# Altium footprint library RC0603FR-0714KL.PcbLib: 3 footprints
Each footprint in its own frame and in the unit in brackets; x right, y up, seen from the top. Pads: shape width x height; smd on the part's side, far side on the other; paste and mask are expansions set on the pad; w line width, h text height; cw(c..) or ccw(c..) is an arc to the next point about the centre after c.
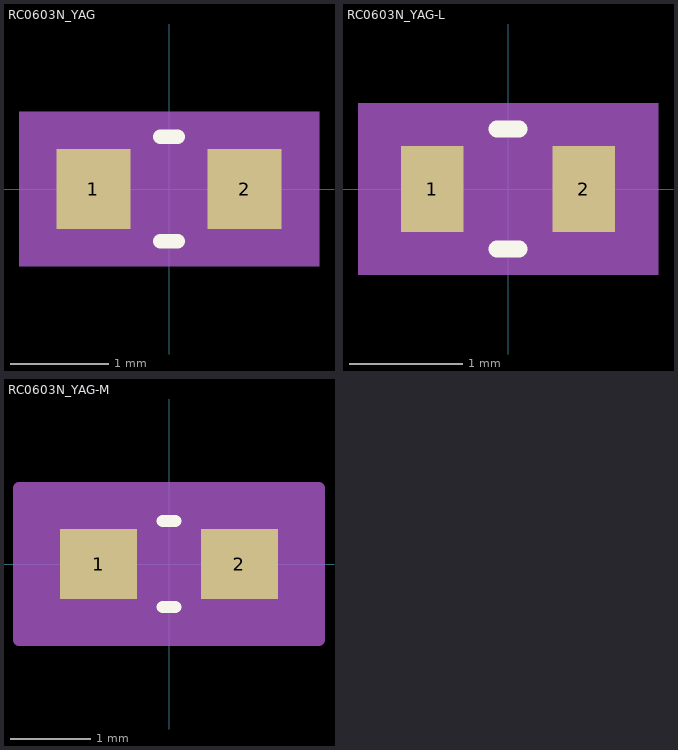
[diagram p0: the footprints below, top view; thin cyan lines are the x and y axes]

## RC0603N_YAG [mil]
pads (2):
  rect 29.78x32 smd paste+0 mask+0: 1(-30.39,0) 2(30.39,0)
Top Overlay:
  lines w6: -3.39,-21 3.39,-21 ; -3.39,21 3.39,21
Mechanical 5:
  region: 60.28,-31 -60.28,-31 -60.28,31 60.28,31
Mechanical 13:
  lines w1: -31.5,-16 -31.5,16 ; -31.5,-16 -15.5,-16 -15.5,16 -31.5,16 ; -31.5,-16 31.5,-16 ; -31.5,-16 -31.5,16 ; -31.5,16 31.5,16 ; 31.5,-16 15.5,-16 15.5,16 31.5,16 ; 31.5,-16 31.5,16 ; 31.5,-16 31.5,16
Mechanical 15:
  region: 55.28,-26 -55.28,-26 -55.28,26 55.28,26
  lines w6: -55.28,-26 -55.28,26 55.28,26 55.28,-26 -55.28,-26
3D body "RC0603N_YAG.step": height 27.99, standoff 0, extent -31.5,-15.98 31.5,15.98

## RC0603N_YAG-L [mil]
pads (2):
  rect 21.91x30.03 smd paste+0 mask+0: 1(-26.45,0) 2(26.45,0)
Top Overlay:
  lines w6: -3.85,-21 3.85,-21 ; -3.85,21 3.85,21
Mechanical 5:
  region: 52.41,-30.02 -52.41,-30.02 -52.41,30.02 52.41,30.02
Mechanical 13:
  lines w1: -31.5,-16 -31.5,16 ; -31.5,-16 -15.5,-16 -15.5,16 -31.5,16 ; -31.5,-16 31.5,-16 ; -31.5,-16 -31.5,16 ; -31.5,16 31.5,16 ; 31.5,-16 15.5,-16 15.5,16 31.5,16 ; 31.5,-16 31.5,16 ; 31.5,-16 31.5,16
Mechanical 15:
  region: 41.41,-19.02 -41.41,-19.02 -41.41,19.02 41.41,19.02
  lines w6: -41.41,-19.02 -41.41,19.02 41.41,19.02 41.41,-19.02 -41.41,-19.02
3D body "RC0603N_YAG.step": height 27.99, standoff 0, extent -31.5,-15.98 31.5,15.98

## RC0603N_YAG-M [mil]
pads (2):
  rect 37.65x33.97 smd paste+0 mask+0: 1(-34.33,0) 2(34.33,0)
Top Overlay:
  lines w6: -3.03,-21 3.03,-21 ; -3.03,21 3.03,21
Mechanical 5:
  region: 68.15,-31.98 -68.15,-31.98 -68.15,31.98 68.15,31.98
Mechanical 13:
  lines w1: -31.5,-16 -31.5,16 ; -31.5,-16 -15.5,-16 -15.5,16 -31.5,16 ; -31.5,-16 31.5,-16 ; -31.5,-16 -31.5,16 ; -31.5,16 31.5,16 ; 31.5,-16 15.5,-16 15.5,16 31.5,16 ; 31.5,-16 31.5,16 ; 31.5,-16 31.5,16
Mechanical 15:
  region: 73.15,-36.98 -73.15,-36.98 -73.15,36.98 73.15,36.98
  lines w6: -73.15,-36.98 -73.15,36.98 73.15,36.98 73.15,-36.98 -73.15,-36.98
3D body "RC0603N_YAG.step": height 27.99, standoff 0, extent -31.5,-15.98 31.5,15.98